# EAGLE library part DISP_VFD_IV-22 (library dp_devices)
7-segment VFD Display Dangerousprototypes.com
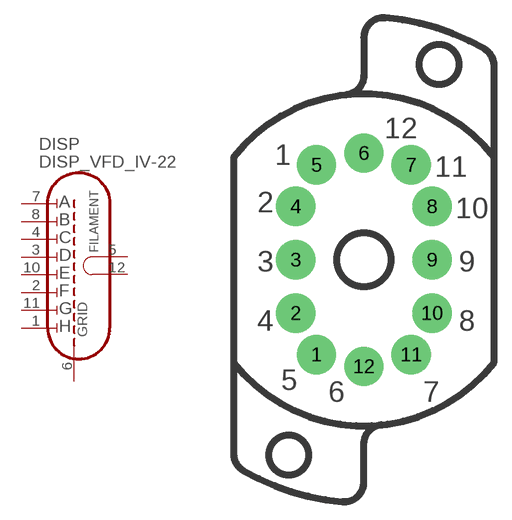
[diagram p93: symbol with the pads of DISP_IN-12_SOCKET; footprint DISP_IN-12_SOCKET]

Designator prefix DISP

## DISP_VFD_IV-22  [DISP_IN-12_SOCKET]
1  H  in
2  F  in
3  D  in
4  C  in
5  FA  pwr
6  GRID  in
7  A  in
8  B  in
10  E  in
11  G  in
12  FB  pwr

## Footprint DISP_IN-12_SOCKET (pad centres in mm)
drill 2.3: 1 -4,-8; 2 -5.75,-4.5; 3 -5.75,0; 4 -5.75,4.5; 5 -4,8; 6 0,9; 7 4,8; 8 5.75,4.5; 9 5.75,0; 10 5.75,-4.5; 11 4,-8; 12 0,-9
hole 3.3 at 6.35,16.5
hole 3.3 at -6.35,-16.5